# EAGLE library part 16X2_LCD (library MISC)
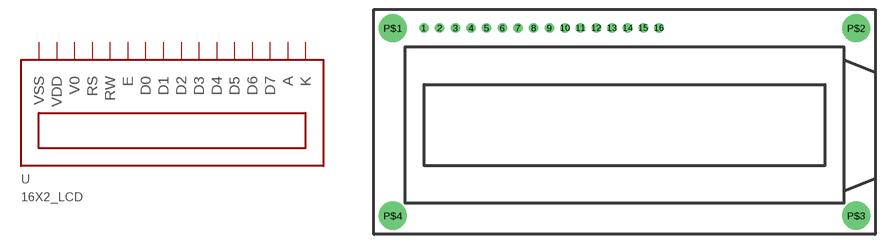
[diagram p1: symbol with the pads of 16X2_LCD; footprint 16X2_LCD]

Designator prefix -

## 16X2_LCD  [16X2_LCD]
1  VSS
2  VDD
3  V0
4  RS
5  RW
6  E
7  D0
8  D1
9  D2
10  D3
11  D4
12  D5
13  D6
14  D7
15  A
16  K

## Footprint 16X2_LCD (pad centres in mm)
drill 1: 1 8,-3; 2 10.5,-3; 3 13,-3; 4 15.5,-3; 5 18,-3; 6 20.5,-3; 7 23,-3; 8 25.5,-3; 9 28,-3; 10 30.5,-3; 11 33,-3; 12 35.5,-3; 13 38,-3; 14 40.5,-3; 15 43,-3; 16 45.5,-3
drill 3.5: P$1 3,-3; P$2 77,-3; P$3 77,-33; P$4 3,-33